# Altium schematic symbol library Misc.SCHLIB: 111 symbols
Pins are listed as number, name and electrical type; pins without a type are passive.

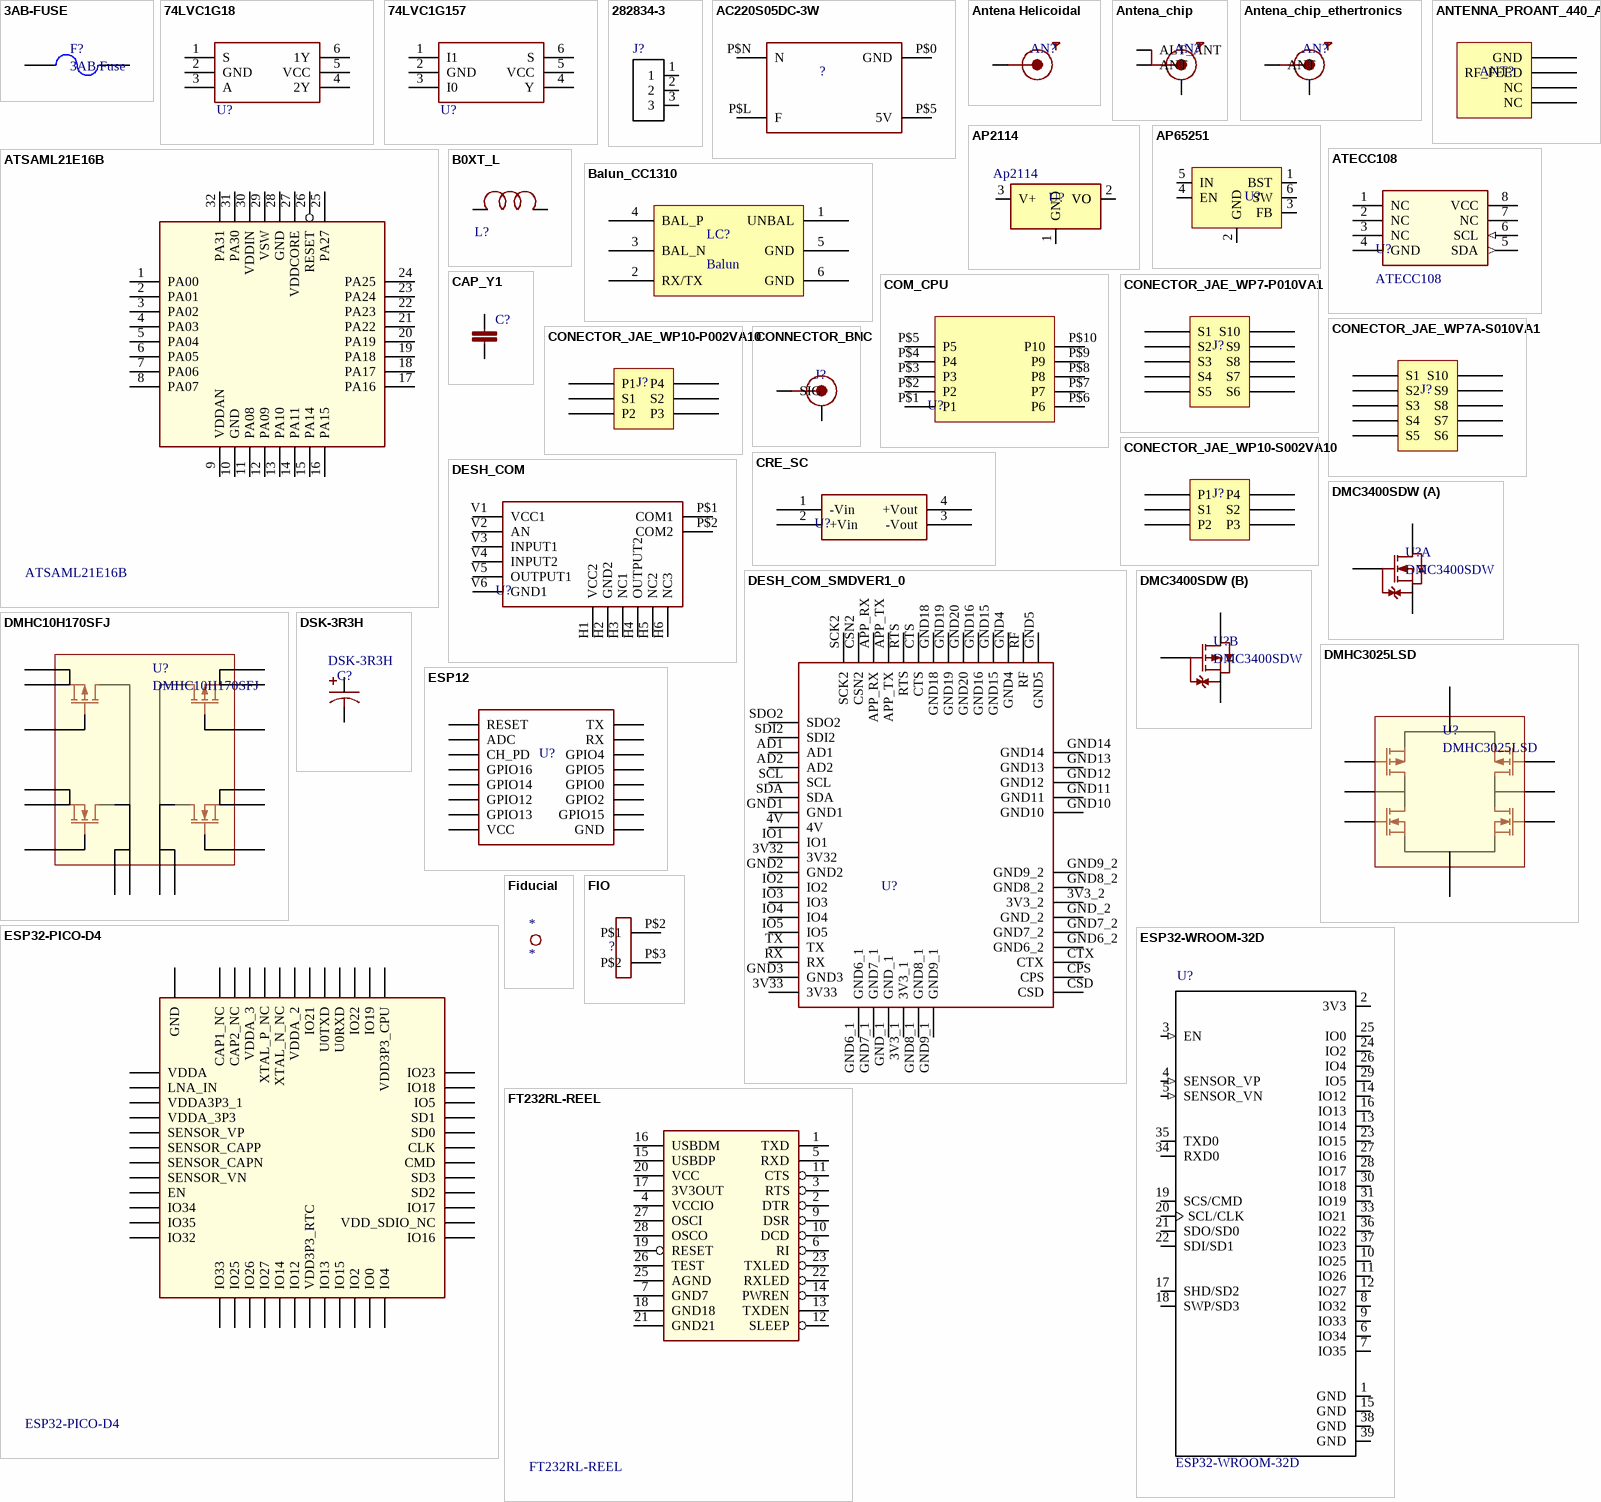
[diagram p0: symbols 3AB-FUSE to FT232RL-REEL]

## 3AB-FUSE
designator F?, comment 3AB Fuse
footprint 3AB FUSE
pins: 1, 2

## 74LVC1G18
designator U?
footprint SOT-353
pins: 1 S, 2 GND, 3 A, 4 2Y, 5 VCC, 6 1Y

## 74LVC1G157
designator U?
footprint SOT-353
pins: 1 I1, 2 GND, 3 I0, 4 Y, 5 VCC, 6 S

## 282834-3
designator J?  (value not drawn)
3 Position Wire to Board Terminal Block Horizontal with Board 0.100 _2.54mm_; MF: TE Connectivity; Package: None; SnapEDA_Link: https://www.snapeda.com/parts/282834-3/TE%20Connectivity%20AMP%20Connectors/view-part/?ref=snap; MP: 282834-3; Availability: Unavailable; TE_purchase_URL: https://www.te.com/usa-en/product-282834-3.html?te_bu=Cor&te_type=disp&te_campaign=seda_glo_cor-seda-global-disp-prtnr-fy19-seda-model-bom-cta_sma-317_1&elqCampaignId=32493; Price: None; EU_RoHS_Compliance: Compliant with Exemptions; Value: *
footprint TE_282834-3
pins: 1, 2, 3

## AC220S05DC-3W
designator ?
footprint HENLV
pins: P$0 GND, P$5 5V, P$L F, P$N N

## Antena Helicoidal
designator AN?, comment Antenna  (value not drawn)
antenna helicoidal Sub-1GHZ; Value: 915MHz
footprint Antena Sub-1GHz horizon
footprint Antena Sub-1GHz vertical
footprint Antena Sub-1GHz horizon - Longo
pins: 1 ANT

## Antena_chip
designator AN?, comment Antenna Chip  (value not drawn)
Molex antenna chip for 2.4GHZ; Part Number: 2030060001; Value: 2.4GHz; Vendor: Molex
footprint Antenna_molex_203 (Wi-Fi-ready MID Chip  and Ceramic SMT Antennas)
pins: 1 ALT_ANT, 2 ANT, 3 GND (power)

## Antena_chip_ethertronics
designator AN?, comment Antenna Chip  (value not drawn)
Molex antenna chip for 2.4GHZ; Part Number: M310220; Vendor: Ethertronics; Value: 2.4GHz
footprint Antena_ethertronics_M310220 (Antena chip Ethertronics BT e wifi)
pins: 1 ANT, 2 GND (power)

## ANTENNA_PROANT_440_AB
designator ANT?
Small antenna for embedded products on the 2.4GHz ISM band, suitable for applications in  WLAN/Wifi, Bluetooth, Zigbee, RFID, WirelessHART etc.; Part Number: PRO-OB-440; Vendor: Proant; Value: *
footprint ANTENNA_PROANT_440_AB (Small antenna for embedded products on the 2.4GHz ISM band, suitable for applications in  WLAN/Wifi, Bluetooth, Zigbee, RFID, WirelessHART etc.)
pins: 1 GND, 2 RF_FEED, 3 NC, 4 NC

## AP2114
designator U?
Vendor: Diodes Incorporated; Part Number: Ap2114
footprint SOT223 (SOT223, 4-Leads)
pins: 1 GND (power), 2 VO, 3 V+ (power), 4 VO

## AP65251
designator U?  (value not drawn)
Part Number: AP65251WU-7; Vendor: Diodes Inc.
footprint DBV0006A_N
pins: 1 BST (power), 2 GND, 3 FB, 4 EN, 5 IN, 6 SW

## ATECC108
designator U?
Atmel CryptoAuthentication Device; Part Number: ATMEL ATECC108; Value: ATECC108
footprint UDFN8 (UDFN8 2x3, 0.65P  CASE 517BF)
pins: 1 NC, 2 NC, 3 NC, 4 GND (power), 5 SDA (out), 6 SCL (in), 7 NC, 8 VCC (power)

## ATSAML21E16B
designator U?
Ultra low-power microcontroller using the 32-bit ARM Cortex- M0+ processor at max; Vendor: Microchip; Part Number: ATSAML21E16B
footprint TQFP32
pins: 1 PA00, 2 PA01, 3 PA02, 4 PA03, 5 PA04, 6 PA05, 7 PA06, 8 PA07, 9 VDDAN, 10 GND, 11 PA08, 12 PA09, 13 PA10, 14 PA11, 15 PA14, 16 PA15, 17 PA16, 18 PA17, 19 PA18, 20 PA19, 21 PA22, 22 PA23, 23 PA24, 24 PA25, 25 PA27, 26 RESET, 27 VDDCORE, 28 GND, 29 VSW, 30 VDDIN, 31 PA30, 32 PA31

## B0XT_L
designator L?
footprint IND_B0X
pins: P$1 P1, P$2 P2

## Balun_CC1310
designator LC?, comment Balun
Sub-GHz Impedance Matched Balun + LPF integrated Passive Component for Texas Instruments CC1310 Chipset; Part Number: 0850BM14E0016; Vendor: Johanson Technology; Value: *
footprint Balun_0603 (SMD Balun 0603)
pins: 1 UNBAL, 2 RX/TX, 3 BAL_N, 4 BAL_P, 5 GND, 6 GND

## CAP_Y1
designator C?
footprint Y1
pins: 1, 2

## COM_CPU
designator U?
footprint COM_CPU
pins: P$1 P1, P$2 P2, P$3 P3, P$4 P4, P$5 P5, P$6 P6, P$7 P7, P$8 P8, P$9 P9, P$10 P10

## CONECTOR_JAE_WP7-P010VA1
designator J?
WP7-P010VA1 - plug - (10 signal); Part Number: WP7-P010VA1-R8000; Value: *; Vendor: *
footprint WP7-P010VA1
pins: 1 S1, 2 S2, 3 S3, 4 S4, 5 S5, 6 S6, 7 S7, 8 S8, 9 S9, 10 S10

## CONECTOR_JAE_WP7A-S010VA1
designator J?
WP7A-S010VA1 - recpt. - (10 signal); Part Number: WP7A-S010VA1-R8000; Value: *; Vendor: *
footprint WP7A-S010VA1
pins: 1 S1, 2 S2, 3 S3, 4 S4, 5 S5, 6 S6, 7 S7, 8 S8, 9 S9, 10 S10

## CONECTOR_JAE_WP10-P002VA10
designator J?
WP10-P002VA10 - plug - (2 signal + 4 power); Part Number: WP10-P002VA10-R15000; Value: *; Vendor: *
footprint WP10-P002VA10
pins: 1 P1, 2 S1, 3 P2, 4 P3, 5 S2, 6 P4

## CONECTOR_JAE_WP10-S002VA10
designator J?
WP10-S002VA10 - recpt. - (2 signal + 4 power); Part Number: WP10-S002VA10-R15000; Value: *; Vendor: *
footprint WP10-S002VA10
pins: 1 P1, 2 S1, 3 P2, 4 P3, 5 S2, 6 P4

## CONNECTOR_BNC
designator J?
footprint CONNECTOR_BNC
pins: 1 SIG, 2 GND (power)

## CRE_SC
designator U?  (value not drawn)
footprint CRE1-SC (DC_DC isolated converter)
pins: 1 -Vin, 2 +Vin, 3 -Vout, 4 +Vout

## DESH_COM
designator U?
footprint DESH_COM
pins: H1 VCC2 (power), H2 GND2, H3 NC1, H4 OUTPUT2, H5 NC2, H6 NC3, P$1 COM1, P$2 COM2, V1 VCC1 (power), V2 AN, V3 INPUT1, V4 INPUT2, V5 OUTPUT1, V6 GND1

## DESH_COM_SMDVER1_0
designator U?  (value not drawn)
footprint DESH_COM_SMD
pins: 3V3_1, 3V3_2, 3V32, 3V33, 4V, AD1, AD2, APP_RX, APP_TX, CPS, CSD, CSN2, CTS, CTX, GND1, GND2, GND3, GND4, GND5, GND6_1, GND6_2, GND7_1, GND7_2, GND8_1, GND8_2, GND9_1, GND9_2, GND10, GND11, GND12, GND13, GND14, GND15, GND16, GND18, GND19, GND20, GND_1, GND_2, IO1, IO2, IO3, IO4, IO5, RF, RTS, RX, SCK2, SCL, SDA, SDI2, SDO2, TX

## DMC3400SDW
designator U?
COMPLEMENTARY PAIR ENHANCEMENT MODE MOSFET; Part Number: DMC3400SDW-13; Vendor: Diodes Incorporated
footprint SOT363
part A pins: 1 S1, 2 G1, 6 D1
part B pins: 3 D2, 4 S2, 5 G2

## DMHC10H170SFJ
designator U?
100V COMPLEMENTARY ENHANCEMENT MODE MOSFET H-BRIDGE; Vendor: Diodes Incorporated
pins: 1 G1, 2 S1, 3 S1, 4 G2, 5 S2, 6 S2, 7 S3, 8 S3, 9 G3, 10 S4, 11 S4, 12 G4, B1 D1_2, B2 D1_2, B3 D3_4, B4 D3_4

## DMHC3025LSD
designator U?
30V COMPLEMENTARY ENHANCEMENT MODE MOSFET H-BRIDGE; Vendor: Diodes Incorporated; Part Number: DMHC3025LSD
footprint SO08-MEDIUM
pins: 1 N1G, 2 N1D/P1D, 3 N1S/N2S, 4 N2G, 5 P2G, 6 N2D/P2D, 7 P1S/P2S, 8 P1G

## DSK-3R3H
designator C?  Part Number: DSK-3R3H
Coin Cell Capacitors, Elne; Vendor: Elna; Família: Capacitor
footprint DSK-3R3H204T614-H2L
pins: 1 +, 2 -

## ESP12
designator U?  (value not drawn)
Part Number: ESP12; Vendor: AI Thinjer
footprint ESP12 (Wifi module ESP12)
pins: ADC, CH_PD, GND, GPIO0, GPIO2, GPIO4, GPIO5, GPIO12, GPIO13, GPIO14, GPIO15, GPIO16, RESET, RXD0 RX, TXD0 TX, VCC

## ESP32-PICO-D4
designator U?
System-in-Package (SIP) module based on ESP32; Vendor: Espressif; Part Number: ESP32-PICO-D4; Value: *
footprint QFN48-7x7
pins: 1 VDDA, 2 LNA_IN, 3 VDDA3P3_1, 4 VDDA_3P3, 5 SENSOR_VP, 6 SENSOR_CAPP, 7 SENSOR_CAPN (power), 8 SENSOR_VN, 9 EN, 10 IO34, 11 IO35, 12 IO32, 13 IO33, 14 IO25, 15 IO26, 16 IO27, 17 IO14, 18 IO12 (power), 19 VDD3P3_RTC, 20 IO13, 21 IO15, 22 IO2, 23 IO0, 24 IO4, 25 IO16, 26 VDD_SDIO_NC, 27 IO17, 28 SD2, 29 SD3, 30 CMD, 31 CLK, 32 SD0, 33 SD1, 34 IO5, 35 IO18, 36 IO23, 37 VDD3P3_CPU, 38 IO19, 39 IO22, 40 U0RXD, 41 U0TXD, 42 IO21 (power), 43 VDDA_2, 44 XTAL_N_NC, 45 XTAL_P_NC, 46 VDDA_3, 47 CAP2_NC, 48 CAP1_NC, 49 GND

## ESP32-WROOM-32D
designator U?
ESP32 Module; MF: Espressif Systems; MP: ESP32-WROOM-32D; SnapEDA_Link: https://www.snapeda.com/parts/ESP32-WROOM-32D/Espressif%20Systems/view-part/?ref=snap; Package: Module Espressif Systems; Digi-Key_Part_Number: 1904-1023-1-ND; Digi-Key_Purchase_URL: https://www.digikey.com/product-detail/en/espressif-systems/ESP32-WROOM-32D/1904-1023-1-ND/9381732?utm_source=snapeda&utm_medium=aggregator&utm_campaign=symbol; Value: *
footprint ESP32-WROOM-32D
pins: 1 GND (power), 2 3V3 (power), 3 EN (in), 4 SENSOR_VP (in), 5 SENSOR_VN (in), 6 IO34 (io), 7 IO35 (io), 8 IO32 (io), 9 IO33 (io), 10 IO25 (io), 11 IO26 (io), 12 IO27 (io), 13 IO14 (io), 14 IO12 (io), 15 GND (power), 16 IO13 (io), 17 SHD/SD2 (io), 18 SWP/SD3 (io), 19 SCS/CMD (io), 20 SCL/CLK (io), 21 SDO/SD0 (io), 22 SDI/SD1 (io), 23 IO15 (io), 24 IO2 (io), 25 IO0 (io), 26 IO4 (io), 27 IO16 (io), 28 IO17 (io), 29 IO5 (io), 30 IO18 (io), 31 IO19 (io), 33 IO21 (io), 34 RXD0 (io), 35 TXD0 (io), 36 IO22 (io), 37 IO23 (io), 38 GND (power), 39 GND (power)

## Fiducial
designator *
footprint Fiducial

## FIO
designator ?
footprint CONECTORFIO
pins: P$2 P$1, P$3 P$2

## FT232RL-REEL
designator U?
USB Interface IC USB to Serial UART Enhanced IC SSOP-28; Vendor: FTDI Chip; Part Number: FT232RL-REEL; Value: *
footprint FT232R
pins: 1 TXD, 2 DTR, 3 RTS, 4 VCCIO, 5 RXD, 6 RI, 7 GND7, 9 DSR, 10 DCD, 11 CTS, 12 SLEEP, 13 TXDEN, 14 PWREN, 15 USBDP, 16 USBDM, 17 3V3OUT, 18 GND18, 19 RESET, 20 VCC, 21 GND21, 22 RXLED, 23 TXLED, 25 AGND, 26 TEST, 27 OSCI, 28 OSCO

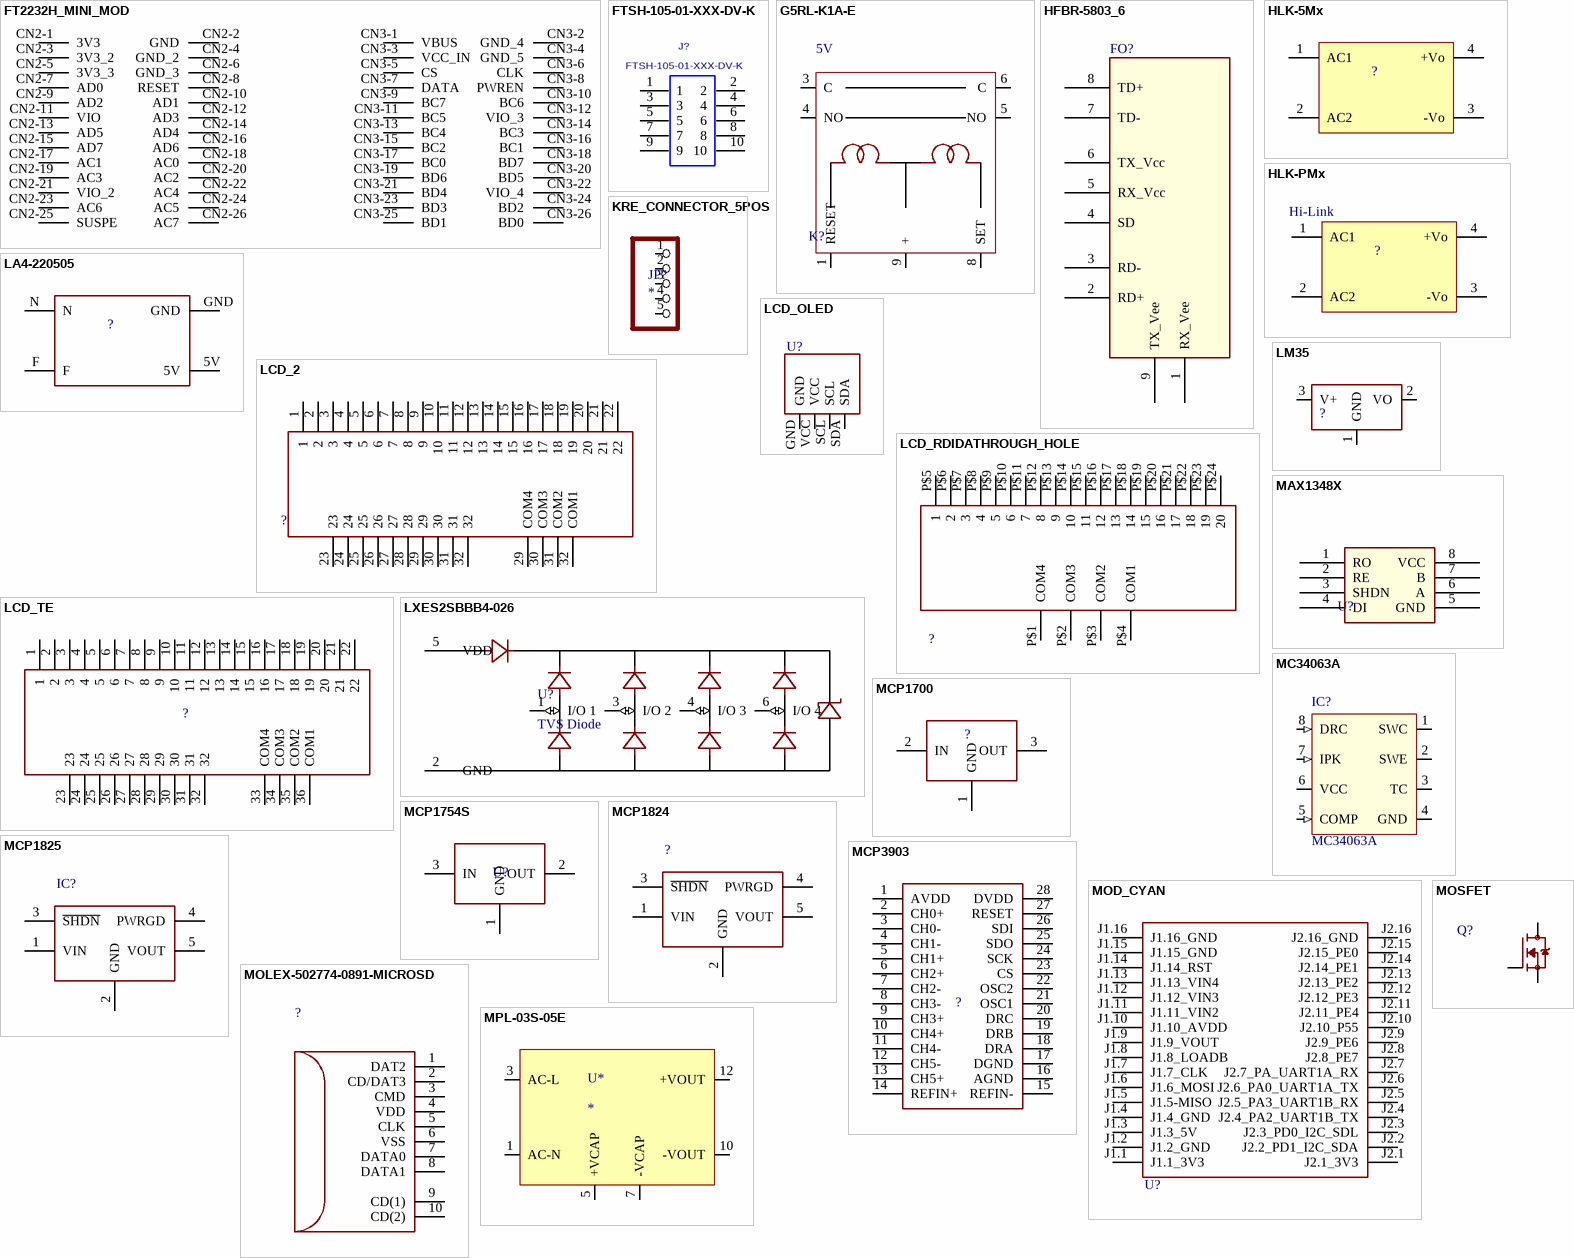
[diagram p1: symbols FT2232H_MINI_MOD to MPL-03S-05E]

## FT2232H_MINI_MOD
designator U?  (value not drawn)
footprint FT2232_MOD
pins: CN2-1 3V3, CN2-2 GND, CN2-3 3V3_2, CN2-4 GND_2, CN2-5 3V3_3, CN2-6 GND_3, CN2-7 AD0, CN2-8 RESET, CN2-9 AD2, CN2-10 AD1, CN2-11 VIO, CN2-12 AD3, CN2-13 AD5, CN2-14 AD4, CN2-15 AD7, CN2-16 AD6, CN2-17 AC1, CN2-18 AC0, CN2-19 AC3, CN2-20 AC2, CN2-21 VIO_2, CN2-22 AC4, CN2-23 AC6, CN2-24 AC5, CN2-25 SUSPE, CN2-26 AC7, CN3-1 VBUS, CN3-2 GND_4, CN3-3 VCC_IN, CN3-4 GND_5, CN3-5 CS, CN3-6 CLK, CN3-7 DATA, CN3-8 PWREN, CN3-9 BC7, CN3-10 BC6, CN3-11 BC5, CN3-12 VIO_3, CN3-13 BC4, CN3-14 BC3, CN3-15 BC2, CN3-16 BC1, CN3-17 BC0, CN3-18 BD7, CN3-19 BD6, CN3-20 BD5, CN3-21 BD4, CN3-22 VIO_4, CN3-23 BD3, CN3-24 BD2, CN3-25 BD1, CN3-26 BD0

## FTSH-105-01-XXX-DV-K
designator J?
TERMINAL STRIP, .050"(1.27mm) PITCH, 10 PINS, KEYED
footprint FTSH-105-01-XXX-DV-K
pins: 1, 2, 3, 4, 5, 6, 7, 8, 9, 10

## G5RL-K1A-E
designator K?  value 5V
Part Number: G5RL-K1A-E
footprint OnROM RELAY LATCH 1 NO
pins: 1 RESET, 3 C, 4 NO, 5 NO, 6 C, 8 SET, 9 +

## HFBR-5803_6
designator FO?, comment AVAGO_AFBR-5803Z  (value not drawn)
FDDI, 100 Mb/s ATM, and Fast Ethernet Transceivers; Part Number: AFBR-580xxTZ; Vendor: AVAGO
footprint AVAGO_AFBR-5803Z
pins: 1 RX_Vee, 2 RD+, 3 RD-, 4 SD, 5 RX_Vcc, 6 TX_Vcc, 7 TD-, 8 TD+, 9 TX_Vee

## HLK-5Mx
designator ?  (value not drawn)
5W Power Module
footprint HLK-5MX (5W power supply)
pins: 1 AC1, 2 AC2, 3 -Vo, 4 +Vo

## HLK-PMx
designator ?  Vendor: Hi-Link  (hidden comment: HLK-PMx)
3W Power Module
footprint HLK-PMX (3W power supply)
pins: 1 AC1, 2 AC2, 3 -Vo, 4 +Vo

## KRE_CONNECTOR_5POS
designator JP?
footprint KRE_CONNECTOR_5POS (KRE Connector 5pos 1kV)
pins: 1, 2, 3, 4, 5

## LA4-220505
designator ?
footprint LA4
pins: 5V, F, GND, N

## LCD_2
designator ?
footprint LCD_2
pins: 1, 2, 3, 4, 5, 6, 7, 8, 9, 10, 11, 12, 13, 14, 15, 16, 17, 18, 19, 20, 21, 22, 23, 24, 25, 26, 27, 28, 29 COM4, 29, 30 COM3, 30, 31 COM2, 31, 32 COM1, 32

## LCD_OLED
designator U?
footprint 096_OLED
pins: GND, SCL, SDA, VCC

## LCD_RDIDATHROUGH_HOLE
designator ?
footprint LCD_RDIDA
pins: P$1 COM4, P$2 COM3, P$3 COM2, P$4 COM1, P$5 1, P$6 2, P$7 3, P$8 4, P$9 5, P$10 6, P$11 7, P$12 8, P$13 9, P$14 10, P$15 11, P$16 12, P$17 13, P$18 14, P$19 15, P$20 16, P$21 17, P$22 18, P$23 19, P$24 20

## LCD_TE
designator ?
footprint LCD_TE
pins: 1, 2, 3, 4, 5, 6, 7, 8, 9, 10, 11, 12, 13, 14, 15, 16, 17, 18, 19, 20, 21, 22, 23, 24, 25, 26, 27, 28, 29, 30, 31, 32, 33 COM4, 34 COM3, 35 COM2, 36 COM1

## LM35
designator ?
footprint TO92-
pins: 1 GND (power), 2 VO, 3 V+ (power)

## LXES2SBBB4-026
designator U?, comment TVS Diode
Part Number: LXES2SBBB4-026; Vendor: Murata; Value: *
footprint SOT-23-6
pins: 1 I/O 1  (io), 2 GND (power), 3 I/O 2 (io), 4 I/O 3 (io), 5 VDD (power), 6 I/O 4 (io)

## MAX1348X
designator U?  (value not drawn)
Vendor: Maxim
footprint SOIC8
pins: 1 RO, 2 RE, 3 SHDN, 4 DI, 5 GND (power), 6 A, 7 B, 8 VCC (power)

## MC34063A
designator IC?
1.5-A Boost/Buck/Inverting Switching Regulator; MF: Texas Instruments; Price: None; SnapEDA_Link: https://www.snapeda.com/parts/MC34063A/Texas%20Instruments/view-part/?ref=snap; Availability: Unavailable; MP: MC34063A; Package: SOIC-8 Texas Instruments; Value: *
footprint SOIC8
footprint DIP8
pins: 1 SWC (io), 2 SWE (io), 3 TC, 4 GND (power), 5 COMP (in), 6 VCC (power), 7 IPK (in), 8 DRC (in)

## MCP1700
designator ?
footprint TO92-
pins: 1 GND (power), 2 IN (power), 3 OUT (power)

## MCP1754S
designator U?
footprint SOT23
pins: 1 GND (power), 2 OUT (power), 3 IN (power)

## MCP1824
designator ?
footprint SOT-23-5
pins: 1 VIN, 2 GND, 3 ~{SHDN}, 4 PWRGD, 5 VOUT

## MCP1825
designator IC?
Conversor de tensão DC-DC 5V para 3.3V
footprint SOT-23-5
pins: 1 VIN, 2 GND, 3 ~{SHDN}, 4 PWRGD, 5 VOUT

## MCP3903
designator ?
footprint SSOP28
pins: 1 AVDD, 2 CH0+, 3 CH0-, 4 CH1-, 5 CH1+, 6 CH2+, 7 CH2-, 8 CH3-, 9 CH3+, 10 CH4+, 11 CH4-, 12 CH5-, 13 CH5+, 14 REFIN+, 15 REFIN-, 16 AGND, 17 DGND, 18 DRA, 19 DRB, 20 DRC, 21 OSC1, 22 OSC2, 23 CS, 24 SCK, 25 SDO, 26 SDI, 27 RESET, 28 DVDD

## MOD_CYAN
designator U?
footprint CYAN
pins: J1.1 J1.1_3V3, J1.2 J1.2_GND, J1.3 J1.3_5V, J1.4 J1.4_GND, J1.5 J1.5-MISO, J1.6 J1.6_MOSI, J1.7 J1.7_CLK, J1.8 J1.8_LOADB, J1.9 J1.9_VOUT, J1.10 J1.10_AVDD, J1.11 J1.11_VIN2, J1.12 J1.12_VIN3, J1.13 J1.13_VIN4, J1.14 J1.14_RST, J1.15 J1.15_GND, J1.16 J1.16_GND, J2.1 J2.1_3V3, J2.2 J2.2_PD1_I2C_SDA, J2.3 J2.3_PD0_I2C_SDL, J2.4 J2.4_PA2_UART1B_TX, J2.5 J2.5_PA3_UART1B_RX, J2.6 J2.6_PA0_UART1A_TX, J2.7 J2.7_PA_UART1A_RX, J2.8 J2.8_PE7, J2.9 J2.9_PE6, J2.10 J2.10_P55, J2.11 J2.11_PE4, J2.12 J2.12_PE3, J2.13 J2.13_PE2, J2.14 J2.14_PE1, J2.15 J2.15_PE0, J2.16 J2.16_GND

## MOLEX-502774-0891-MICROSD
designator ?
footprint MOLEX-502774-0891-MICROSD
pins: 1 DAT2, 2 CD/DAT3, 3 CMD, 4 VDD, 5 CLK, 6 VSS, 7 DATA0, 8 DATA1, 9 CD(1), 10 CD(2)

## MOSFET
designator Q?
footprint DPAK
pins: 1 G, 2 D, 3 S

## MPL-03S-05E
designator U*
Single Output 3W Ultra-Miniature SOIP AC/DC Power Supplies; Part Number: MPL-03S-05E; Value: *; Vendor: *
footprint MPL-03S (Single Output 3W Ultra-Miniature SOIP AC/DC Power Supplies)
pins: 1 AC-N (power), 3 AC-L (power), 5 +VCAP, 7 -VCAP, 10 -VOUT (power), 12 +VOUT (power)

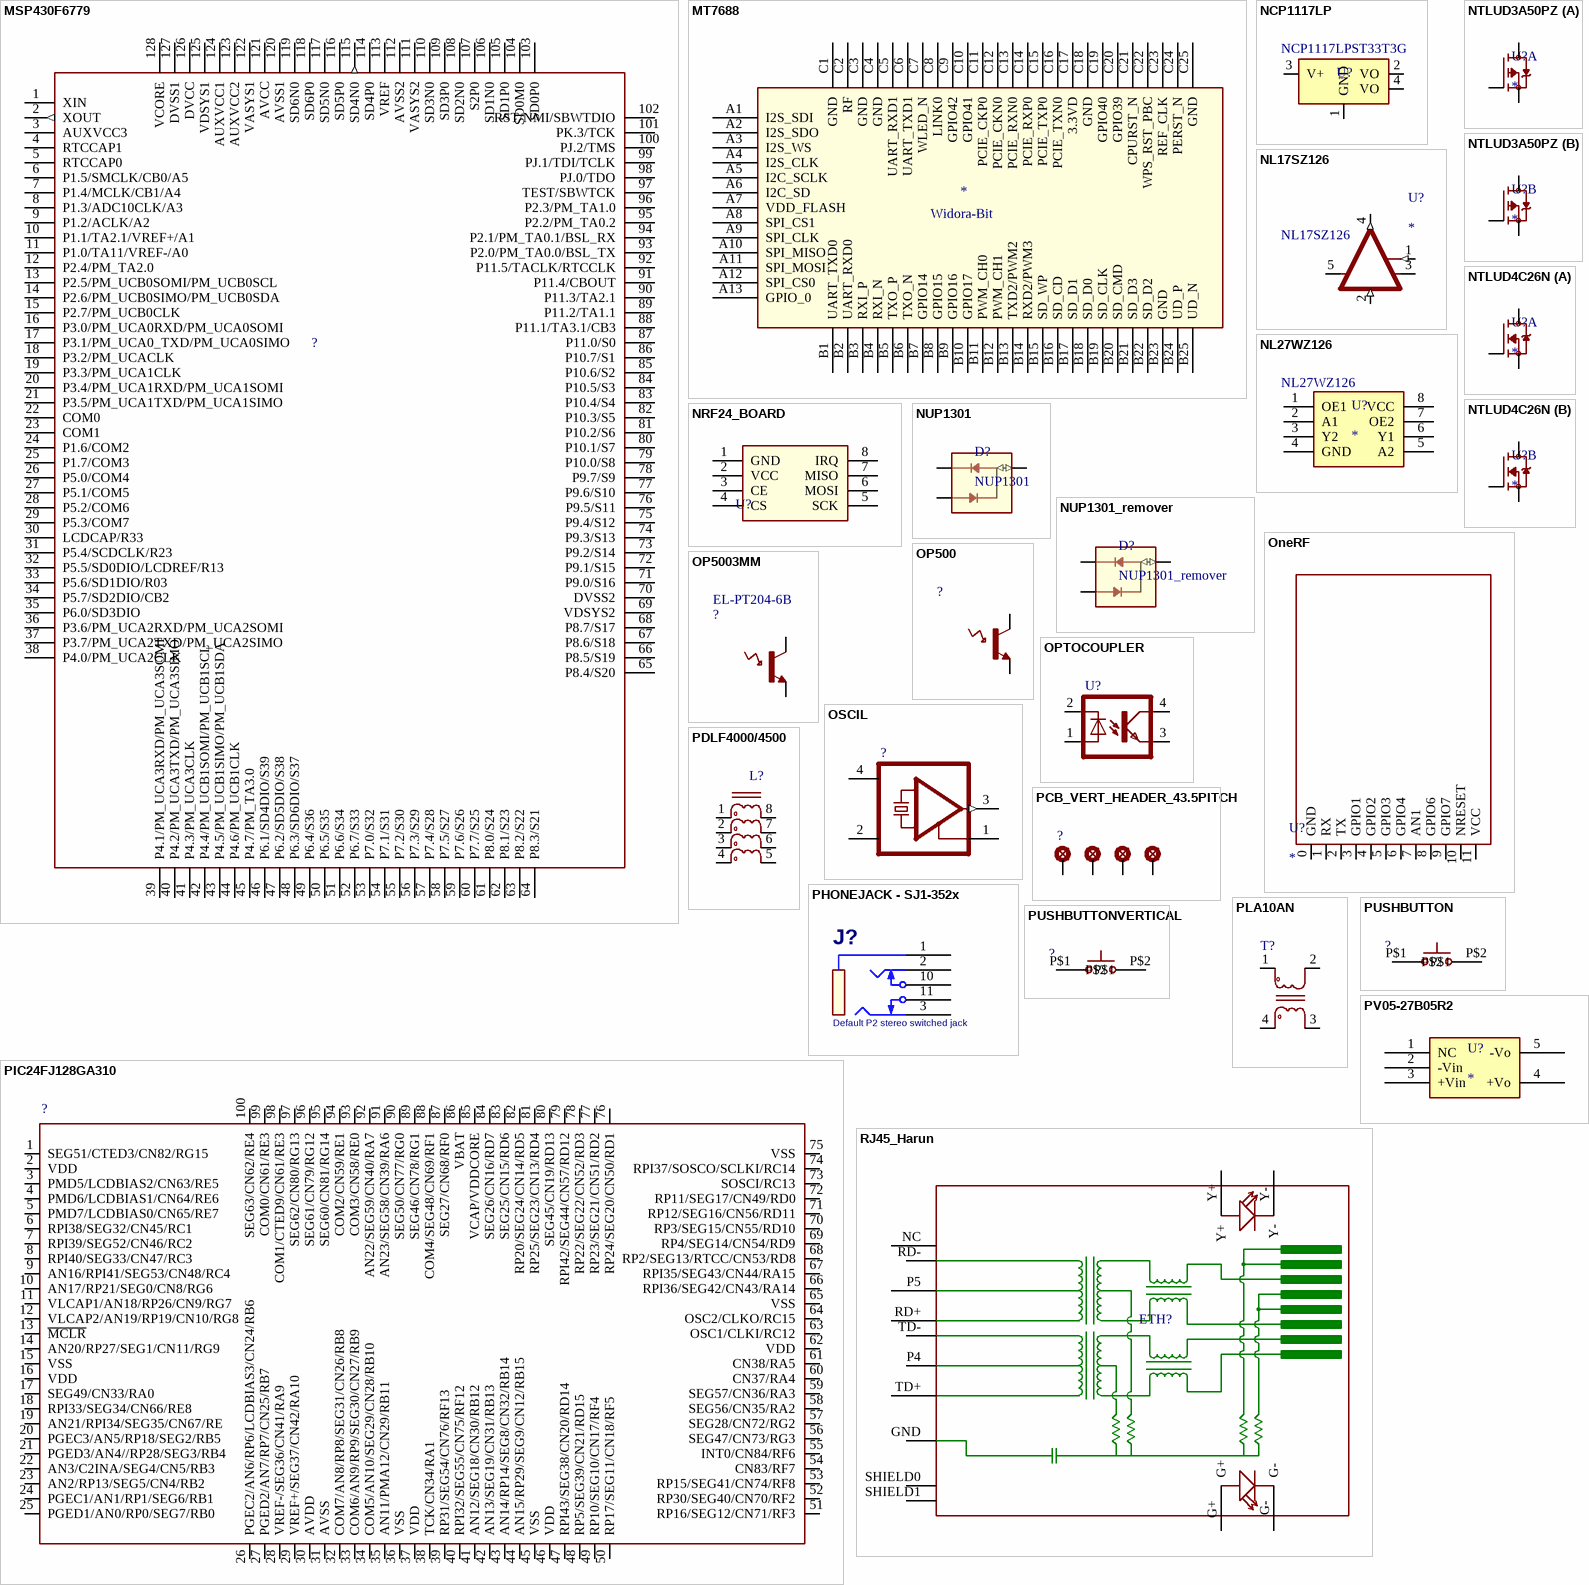
[diagram p2: symbols MSP430F6779 to RJ45_Harun]

## MSP430F6779
designator ?
footprint PQFP128
pins: 1 XIN, 2 XOUT (out), 3 AUXVCC3, 4 RTCCAP1, 5 RTCCAP0, 6 P1.5/SMCLK/CB0/A5, 7 P1.4/MCLK/CB1/A4, 8 P1.3/ADC10CLK/A3, 9 P1.2/ACLK/A2, 10 P1.1/TA2.1/VREF+/A1, 11 P1.0/TA11/VREF-/A0, 12 P2.4/PM_TA2.0, 13 P2.5/PM_UCB0SOMI/PM_UCB0SCL, 14 P2.6/PM_UCB0SIMO/PM_UCB0SDA, 15 P2.7/PM_UCB0CLK, 16 P3.0/PM_UCA0RXD/PM_UCA0SOMI, 17 P3.1/PM_UCA0_TXD/PM_UCA0SIMO, 18 P3.2/PM_UCACLK, 19 P3.3/PM_UCA1CLK, 20 P3.4/PM_UCA1RXD/PM_UCA1SOMI, 21 P3.5/PM_UCA1TXD/PM_UCA1SIMO, 22 COM0, 23 COM1, 24 P1.6/COM2, 25 P1.7/COM3, 26 P5.0/COM4, 27 P5.1/COM5, 28 P5.2/COM6, 29 P5.3/COM7, 30 LCDCAP/R33, 31 P5.4/SCDCLK/R23, 32 P5.5/SD0DIO/LCDREF/R13, 33 P5.6/SD1DIO/R03, 34 P5.7/SD2DIO/CB2, 35 P6.0/SD3DIO, 36 P3.6/PM_UCA2RXD/PM_UCA2SOMI, 37 P3.7/PM_UCA2TXD/PM_UCA2SIMO, 38 P4.0/PM_UCA2CLK, 39 P4.1/PM_UCA3RXD/PM_UCA3SOMI, 40 P4.2/PM_UCA3TXD/PM_UCA3SIMO, 41 P4.3/PM_UCA3CLK, 42 P4.4/PM_UCB1SOMI/PM_UCB1SCL, 43 P4.5/PM_UCB1SIMO/PM_UCB1SDA, 44 P4.6/PM_UCB1CLK, 45 P4.7/PM_TA3.0, 46 P6.1/SD4DIO/S39, 47 P6.2/SD5DIO/S38, 48 P6.3/SD6DIO/S37, 49 P6.4/S36, 50 P6.5/S35, 51 P6.6/S34, 52 P6.7/S33, 53 P7.0/S32, 54 P7.1/S31, 55 P7.2/S30, 56 P7.3/S29, 57 P7.4/S28, 58 P7.5/S27, 59 P7.6/S26, 60 P7.7/S25, 61 P8.0/S24, 62 P8.1/S23, 63 P8.2/S22, 64 P8.3/S21, 65 P8.4/S20, 66 P8.5/S19, 67 P8.6/S18, 68 P8.7/S17, 69 VDSYS2, 70 DVSS2, 71 P9.0/S16, 72 P9.1/S15, 73 P9.2/S14, 74 P9.3/S13, 75 P9.4/S12, 76 P9.5/S11, 77 P9.6/S10, 78 P9.7/S9, 79 P10.0/S8, 80 P10.1/S7, 81 P10.2/S6, 82 P10.3/S5, 83 P10.4/S4, 84 P10.5/S3, 85 P10.6/S2, 86 P10.7/S1, 87 P11.0/S0, 88 P11.1/TA3.1/CB3, 89 P11.2/TA1.1, 90 P11.3/TA2.1, 91 P11.4/CBOUT, 92 P11.5/TACLK/RTCCLK, 93 P2.0/PM_TA0.0/BSL_TX, 94 P2.1/PM_TA0.1/BSL_RX, 95 P2.2/PM_TA0.2, 96 P2.3/PM_TA1.0, 97 TEST/SBWTCK, 98 PJ.0/TDO, 99 PJ.1/TDI/TCLK, 100 PJ.2/TMS, 101 PK.3/TCK, 102 RST/NMI/SBWTDIO, 103 SD0P0, 104 SD0M0, 105 SD1P0, 106 SD1N0, 107 S2P0, 108 SD2N0, 109 SD3P0, 110 SD3N0, 111 VASYS2, 112 AVSS2, 113 VREF, 114 SD4P0, 115 SD4N0 (out), 116 SD5P0, 117 SD5N0, 118 SD6P0, 119 SD6N0, 120 AVSS1, 121 AVCC, 122 VASYS1, 123 AUXVCC2, 124 AUXVCC1, 125 VDSYS1 (power), 126 DVCC (power), 127 DVSS1 (power), 128 VCORE

## MT7688
designator *  (value not drawn)
footprint Widora_BIT (Widora bit MT7688)
footprint Widora_BIT _pth (Widora bit MT7688)
pins: A1 I2S_SDI, A2 I2S_SDO, A3 I2S_WS, A4 I2S_CLK, A5 I2C_SCLK, A6 I2C_SD, A7 VDD_FLASH, A8 SPI_CS1, A9 SPI_CLK, A10 SPI_MISO, A11 SPI_MOSI, A12 SPI_CS0, A13 GPIO_0, B1 UART_TXD0, B2 UART_RXD0, B3 RXI_P, B4 RXI_N, B5 TXO_P, B6 TXO_N, B7 GPIO14, B8 GPIO15, B9 GPIO16, B10 GPIO17, B11 PWM_CH0, B12 PWM_CH1, B13 TXD2/PWM2, B14 RXD2/PWM3, B15 SD_WP, B16 SD_CD, B17 SD_D1, B18 SD_D0, B19 SD_CLK, B20 SD_CMD, B21 SD_D3, B22 SD_D2, B23 GND, B24 UD_P, B25 UD_N, C1 GND, C2 RF, C3 GND, C4 GND, C5 UART_RXD1, C6 UART_TXD1, C7 WLED_N, C8 LINK0, C9 GPIO42, C10 GPIO41, C11 PCIE_CKP0, C12 PCIE_CKN0, C13 PCIE_RXN0, C14 PCIE_RXP0, C15 PCIE_TXP0, C16 PCIE_TXN0, C17 3.3VD, C18 GND, C19 GPIO40, C20 GPIO39, C21 CPURST_N, C22 WPS_RST_PBC, C23 REF_CLK, C24 PERST_N, C25 GND
text: Widora-Bit

## NCP1117LP
designator U?  Part Number: NCP1117LPST33T3G  (hidden comment: NCP1117LP)
footprint SOT223 (SOT223, 4-Leads)
pins: 1 GND (power), 2 VO, 3 V+ (power), 4 VO

## NL17SZ126
designator U?  Part Number: NL17SZ126
Dual Buffer with 3-State  Outputs; Value: dual
footprint SOT-353-5
pins: 1 EN (in), 2 IN (in), 3 GND (power), 4 OUT (out), 5 VCC (power)

## NL27WZ126
designator U?  Part Number: NL27WZ126
Dual Buffer with 3-State  Outputs; Vendor: ONSEMI; Value: dual
footprint SOP50P310X90-8N
pins: 1 OE1, 2 A1, 3 Y2, 4 GND, 5 A2, 6 Y1, 7 OE2, 8 VCC (power)

## NRF24_BOARD
designator U?
footprint NRF24_BOARD
pins: 1 GND, 2 VCC, 3 CE, 4 CS, 5 SCK, 6 MOSI, 7 MISO, 8 IRQ

## NTLUD3A50PZ
designator U?
Dual P−Channel, Power MOSFET / 30 V, 7.3 A
footprint UDFN6 2x2 (UDFN6 2x2, 0.65P  CASE 517BF)
part A pins: 1 S1, 2 G1, 6 D1
part B pins: 3 D2, 4 S2, 5 G2

## NTLUD4C26N
designator U?
Dual N−Channel, Power MOSFET / 30 V, 7.3 A
footprint UDFN6 2x2 (UDFN6 2x2, 0.65P  CASE 517BF)
part A pins: 1 S1, 2 G1, 6 D1
part B pins: 3 D2, 4 S2, 5 G2

## NUP1301
designator D?
Ultra Low capacitance ESD protection array; Vendor: NXP; Part Number: NUP1301
footprint SOT23
footprint SOT23_Meter_sm01B
pins: 1 GND (power), 2 VCC (power), 3 I/O (io)

## NUP1301_remover
designator D?
Ultra Low capacitance ESD protection array; Vendor: NXP; Part Number: NUP1301
footprint SOT23_remover
pins: 1 GND (power), 2 VCC (power), 3 I/O (io)

## OneRF
designator U?
Módulo de comunicação da OneRF; Vendor: OneRF
footprint OneRF
pins: 0 GND (power), 1 RX, 2 TX, 3 GPIO1, 4 GPIO2, 5 GPIO3, 6 GPIO4, 7 AN1, 8 GPIO6, 9 GPIO7, 10 NRESET, 11 VCC (power)

## OP500
designator ?
footprint PHOTOC0805
pins: 1 C, 2 E

## OP5003MM
designator ?  Part Number: EL-PT204-6B  (hidden comment: OP5003MM)
Vendor: Everlight; Família: LEDs
footprint LED_3MM; pin to pad A>K K>A
pins: A C, K E

## OPTOCOUPLER
designator U?
footprint SMD4_OPTO
pins: 1 A, 2 C, 3 EMI, 4 COL

## OSCIL
designator ?
footprint OSCIL_PCK
pins: 1 TRI, 2 GND (power), 3 OUT (out), 4 VDD (power)

## PCB_VERT_HEADER_43.5PITCH
designator ?
footprint PCB_VERT_HEADR_3.5MM_4
pins: P$1, P$2, P$3, P$4

## PDLF4000/4500
designator L?
footprint PDLF_FILTER
pins: 1 P1, 2 P2, 3 P3, 4 P4, 5 P5, 6 P6, 7 P7, 8 P8

## PHONEJACK - SJ1-352x
designator J?, comment Default P2 stereo switched jack
footprint phone jack - SJ1-352x
pins: 1 SLEEVE, 2 TIP, 3 RING, 10 TIP_SW, 11 RING_SW

## PIC24FJ128GA310
designator ?
footprint TQFP10012X12
pins: 1 SEG51/CTED3/CN82/RG15, 2 VDD (power), 3 PMD5/LCDBIAS2/CN63/RE5, 4 PMD6/LCDBIAS1/CN64/RE6, 5 PMD7/LCDBIAS0/CN65/RE7, 6 RPI38/SEG32/CN45/RC1, 7 RPI39/SEG52/CN46/RC2, 8 RPI40/SEG33/CN47/RC3, 9 AN16/RPI41/SEG53/CN48/RC4, 10 AN17/RP21/SEG0/CN8/RG6, 11 VLCAP1/AN18/RP26/CN9/RG7, 12 VLCAP2/AN19/RP19/CN10/RG8, 13 ~{MCLR}, 14 AN20/RP27/SEG1/CN11/RG9, 15 VSS (power), 16 VDD (power), 17 SEG49/CN33/RA0, 18 RPI33/SEG34/CN66/RE8, 19 AN21/RPI34/SEG35/CN67/RE, 20 PGEC3/AN5/RP18/SEG2/RB5, 21 PGED3/AN4//RP28/SEG3/RB4, 22 AN3/C2INA/SEG4/CN5/RB3, 23 AN2/RP13/SEG5/CN4/RB2, 24 PGEC1/AN1/RP1/SEG6/RB1, 25 PGED1/AN0/RP0/SEG7/RB0, 26 PGEC2/AN6/RP6/LCDBIAS3/CN24/RB6, 27 PGED2/AN7/RP7/CN25/RB7, 28 VREF-/SEG36/CN41/RA9, 29 VREF+/SEG37/CN42/RA10, 30 AVDD (power), 31 AVSS (power), 32 COM7/AN8/RP8/SEG31/CN26/RB8, 33 COM6/AN9/RP9/SEG30/CN27/RB9, 34 COM5/AN10/SEG29/CN28/RB10, 35 AN11/PMA12/CN29/RB11, 36 VSS (power), 37 VDD (power), 38 TCK/CN34/RA1, 39 RP31/SEG54/CN76/RF13, 40 RPI32/SEG55/CN75/RF12, 41 AN12/SEG18/CN30/RB12, 42 AN13/SEG19/CN31/RB13, 43 AN14/RP14/SEG8/CN32/RB14, 44 AN15/RP29/SEG9/CN12/RB15, 45 VSS (power), 46 VDD (power), 47 RPI43/SEG38/CN20/RD14, 48 RP5/SEG39/CN21/RD15, 49 RP10/SEG10/CN17/RF4, 50 RP17/SEG11/CN18/RF5, 51 RP16/SEG12/CN71/RF3, 52 RP30/SEG40/CN70/RF2, 53 RP15/SEG41/CN74/RF8, 54 CN83/RF7, 55 INT0/CN84/RF6, 56 SEG47/CN73/RG3, 57 SEG28/CN72/RG2, 58 SEG56/CN35/RA2, 59 SEG57/CN36/RA3, 60 CN37/RA4, 61 CN38/RA5, 62 VDD (power), 63 OSC1/CLKI/RC12, 64 OSC2/CLKO/RC15, 65 VSS (power), 66 RPI36/SEG42/CN43/RA14, 67 RPI35/SEG43/CN44/RA15, 68 RP2/SEG13/RTCC/CN53/RD8, 69 RP4/SEG14/CN54/RD9, 70 RP3/SEG15/CN55/RD10, 71 RP12/SEG16/CN56/RD11, 72 RP11/SEG17/CN49/RD0, 73 SOSCI/RC13, 74 RPI37/SOSCO/SCLKI/RC14, 75 VSS (power), 76 RP24/SEG20/CN50/RD1, 77 RP23/SEG21/CN51/RD2, 78 RP22/SEG22/CN52/RD3, 79 RPI42/SEG44/CN57/RD12, 80 SEG45/CN19/RD13, 81 RP25/SEG23/CN13/RD4, 82 RP20/SEG24/CN14/RD5, 83 SEG25/CN15/RD6, 84 SEG26/CN16/RD7, 85 VCAP/VDDCORE, 86 VBAT, 87 SEG27/CN68/RF0, 88 COM4/SEG48/CN69/RF1, 89 SEG46/CN78/RG1, 90 SEG50/CN77/RG0, 91 AN23/SEG58/CN39/RA6, 92 AN22/SEG59/CN40/RA7, 93 COM3/CN58/RE0, 94 COM2/CN59/RE1, 95 SEG60/CN81/RG14, 96 SEG61/CN79/RG12, 97 SEG62/CN80/RG13, 98 COM1/CTED9/CN61/RE3, 99 COM0/CN61/RE3, 100 SEG63/CN62/RE4

## PLA10AN
designator T?
footprint MURATA_PLA
pins: 1, 2, 3, 4

## PUSHBUTTON
designator ?
footprint PUSHBUTTON
pins: P$1, P$2

## PUSHBUTTONVERTICAL
designator ?
footprint PUSHBUTTON_VERT
pins: P$1, P$2

## PV05-27B05R2
designator U?
footprint PV05-27B05R2 (Mornsun DC/DC Converter)
pins: 1 NC, 2 -Vin, 3 +Vin, 4 +Vo, 5 -Vo

## RJ45_Harun
designator ETH?  (value not drawn)
Conector RJ45; Part Number: HR911105A; Vendor: Hanrun
footprint RJ45_Harun
pins: G+, G-, GND, NC, P4, P5, RD+, RD-, SHIELD0, SHIELD1, TD+, TD-, Y+, Y-

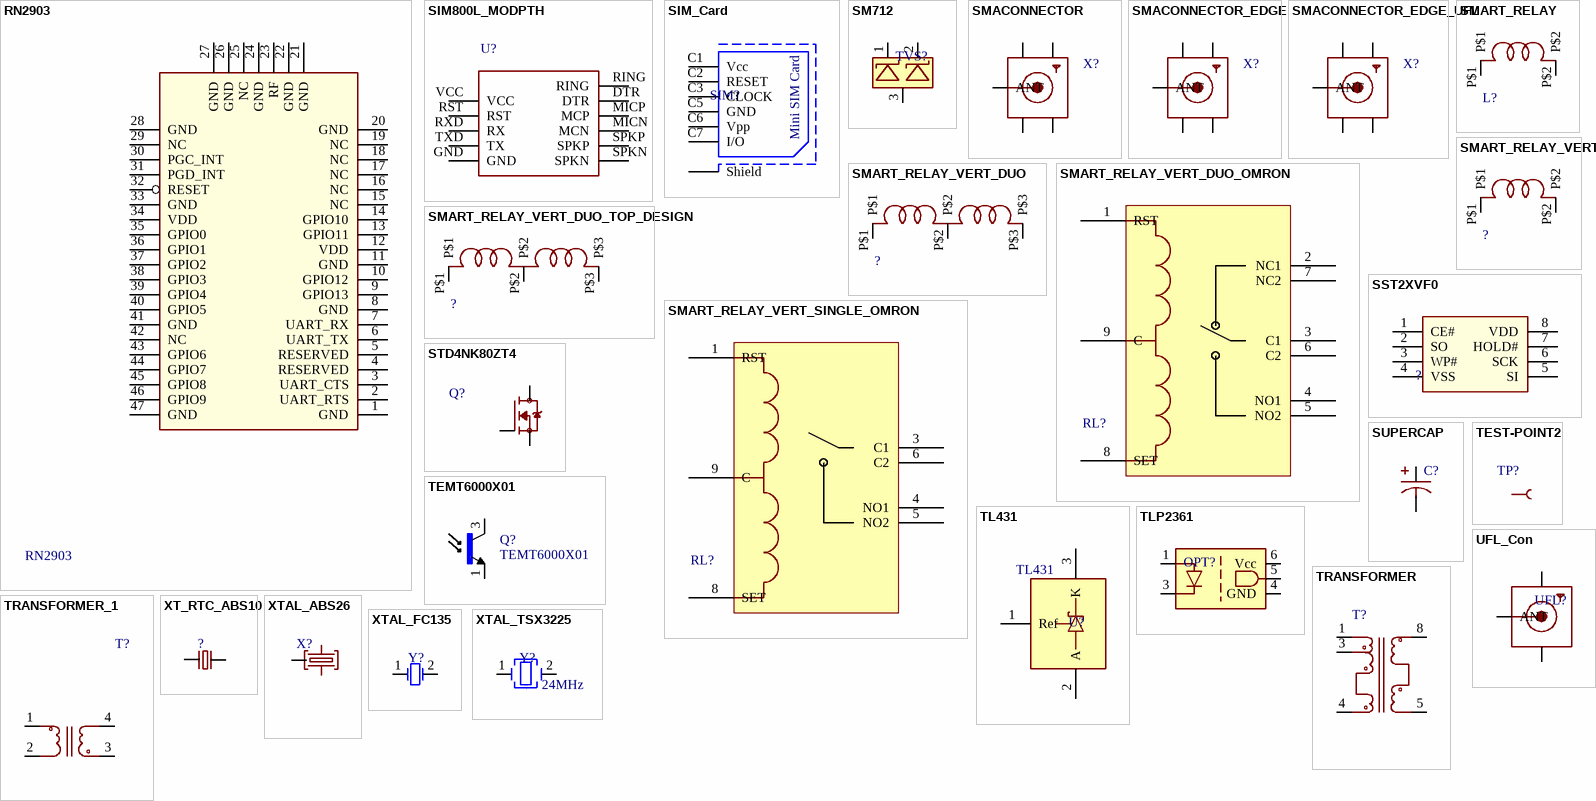
[diagram p3: symbols RN2903 to XTAL_TSX3225]

## RN2903
designator U?
Low-Power Long Range LoRa Technology Transceiver Module; Vendor: Microchip; Part Number: RN2903
footprint RN2903
pins: 1 GND, 2 UART_RTS, 3 UART_CTS, 4 RESERVED, 5 RESERVED, 6 UART_TX, 7 UART_RX, 8 GND, 9 GPIO13, 10 GPIO12, 11 GND, 12 VDD, 13 GPIO11, 14 GPIO10, 15 NC, 16 NC, 17 NC, 18 NC, 19 NC, 20 GND, 21 GND, 22 GND, 23 RF, 24 GND, 25 NC, 26 GND, 27 GND, 28 GND, 29 NC, 30 PGC_INT, 31 PGD_INT, 32 RESET, 33 GND, 34 VDD, 35 GPIO0, 36 GPIO1, 37 GPIO2, 38 GPIO3, 39 GPIO4, 40 GPIO5, 41 GND, 42 NC, 43 GPIO6, 44 GPIO7, 45 GPIO8, 46 GPIO9, 47 GND

## SIM800L_MODPTH
designator U?
footprint SIM800L
pins: DTR, GND, MICN MCN, MICP MCP, RING, RST, RXD RX, SPKN, SPKP, TXD TX, VCC

## SIM_Card
designator SIM?  (value not drawn)
Vendor: *; Part Number: *
footprint SIM_Card (Sim Card Holder)
pins: C1 Vcc, C2 RESET, C3 CLOCK, C5 GND, C6 Vpp, C7 I/O, Shield
text: Mini SIM Card

## SM712
designator TVS?, comment Protectio TVS dual  (value not drawn)
Part Number: SM712; Vendor: Semtech
footprint SOT23
pins: 1 IO1, 2 IO2, 3 GND

## SMACONNECTOR
designator X?  (value not drawn)
pins: ANTENNA ANT, GND1 (power), GND2 (power), GND3 (power), GND4 (power)

## SMACONNECTOR_EDGE
designator X?  (value not drawn)
footprint SMA_EDGELAUNCH
pins: GND@1 GND4 (power), GND@2 GND3 (power), GND@3 GND2 (power), GND@4 GND1 (power), P ANT

## SMACONNECTOR_EDGE_UFL
designator X?  (value not drawn)
footprint SMA_EDGELAUNCH_UFL
pins: GND@1 GND1 (power), GND@2 GND2 (power), GND@3 GND3 (power), GND@4 GND4 (power), P ANT

## SMART_RELAY
designator L?
footprint SMART_RELAY
pins: P$1, P$2

## SMART_RELAY_VERT
designator ?
footprint SMART_RELAY_VERT
pins: P$1, P$2

## SMART_RELAY_VERT_DUO
designator ?
footprint SMART_RELEY_VET_DUO
pins: P$1, P$2, P$3

## SMART_RELAY_VERT_DUO_OMRON
designator RL?  (value not drawn)
General-purpose Latching Relay
footprint OnROM RELAY LATCH 1 NO/NC
pins: 1 RST, 2 NC1, 3 C1, 4 NO1, 5 NO2, 6 C2, 7 NC2, 8 SET, 9 C

## SMART_RELAY_VERT_DUO_TOP_DESIGN
designator ?  (value not drawn)
footprint SMART_RELEY_VET_DUO_TOP_DESIGN
pins: P$1, P$2, P$3

## SMART_RELAY_VERT_SINGLE_OMRON
designator RL?  (value not drawn)
General-purpose Latching Relay
footprint OnROM RELAY LATCH 1 NO
pins: 1 RST, 3 C1, 4 NO1, 5 NO2, 6 C2, 8 SET, 9 C

## SST2XVF0
designator ?
footprint SO08-MEDIUM
footprint SOIC8
footprint DIP8
pins: 1 CE#, 2 SO, 3 WP#, 4 VSS, 5 SI, 6 SCK, 7 HOLD#, 8 VDD

## STD4NK80ZT4
designator Q?  (value not drawn)
Value: MOSFET; Vendor: ST; Part Number: STD4NK80ZT4
footprint DPAK
pins: 1 G, 2 D, 3 S

## SUPERCAP
designator C?
footprint SUPERCAP05
pins: +, -

## TEMT6000X01
designator Q?
Ambient Light Sensor Phototransistor Chip Silicon 570nm Automotive 3-Pin SMD T/R; Vendor: Vishay Semiconductors; Value: *; Part Number: TEMT6000X01
footprint TRANS_TEMT6000X01
pins: 1 E, 3 C

## TEST-POINT2
designator TP?, comment SparkFun Test Points    Bare copper test points for troubleshooting or In-Circuit-Testing. These are used by our Production team for verifying production board runs using pogo-pins on test beds.   SparkFun Products: SparkFun LSM9DS1 Breakout  SparkFun PSOC  SparkFun Load Cell Amplifier  (value not drawn)
footprint PAD.03X.03
pins: P$1 1

## TL431
designator U?  Part Number: TL431
Voltage References Rail Virtual Ground
footprint TO92 - TL431
pins: 1 Ref (power), 2 A (power), 3 K

## TLP2361
designator OPT?  (value not drawn)
Part Number: TPL2361; Vendor: Toshiba
footprint SOP-5
pins: 1 A, 3 C, 4 GND, 5 Vo, 6 Vcc

## TRANSFORMER
designator T?
footprint CARRETEL_VERTICAL
pins: 1, 3, 4, 5, 8

## TRANSFORMER_1
designator T?  (value not drawn)
footprint TRANSFORMER_1
pins: 1, 2, 3, 4

## UFL_Con
designator UFL?, comment UFL connector  (value not drawn)
footprint HRS_U.FL-R-SMT(01)
pins: 1 GND3 (power), 2 GND1 (power), 3 ANT

## XT_RTC_ABS10
designator ?
footprint XT_RTC_ABS10
pins: P$1, P$2

## XTAL_ABS26
designator X?
Part Number: XTAL_ABS26
footprint XTAL_SMD
pins: 1 XC2, 2 XC1, 3 GND

## XTAL_FC135
designator Y?  (value not drawn)
CRYSTAL, RESONATOR, 32.768kHz, -20PPM/+20PPM, -40DEGC/+85DEGC, SMD; Part Number: FC-135 32.7680KA-AG0; Vendor: Epson; Value: 32.768kHz
footprint XTAL FC-135
pins: 1 OSC1, 2 OSC2

## XTAL_TSX3225
designator Y?  value 24MHz  (hidden comment: XTAL_TSX3225)
CRYSTAL, CRYSTAL OSCILLATOR, 24MHz, -15PPM/DEGC/+15PPM/DEGC, -40DEGC/+85DEGC, SMD; Part Number: TSX-3225 24.0000MF15X-AC3; Vendor: Epson
footprint XTAL TSX-3225
pins: 1 OSC1, 2 OSC2, 3 GND